# Altium footprint library SparkFun-Connectors.PCBLIB: 305 footprints (part 13 of 20)
Each footprint in its own frame and in the unit in brackets; x right, y up, seen from the top. Pads: shape width x height; smd on the part's side, far side on the other; paste and mask are expansions set on the pad; w line width, h text height; cw(c..) or ccw(c..) is an arc to the next point about the centre after c.
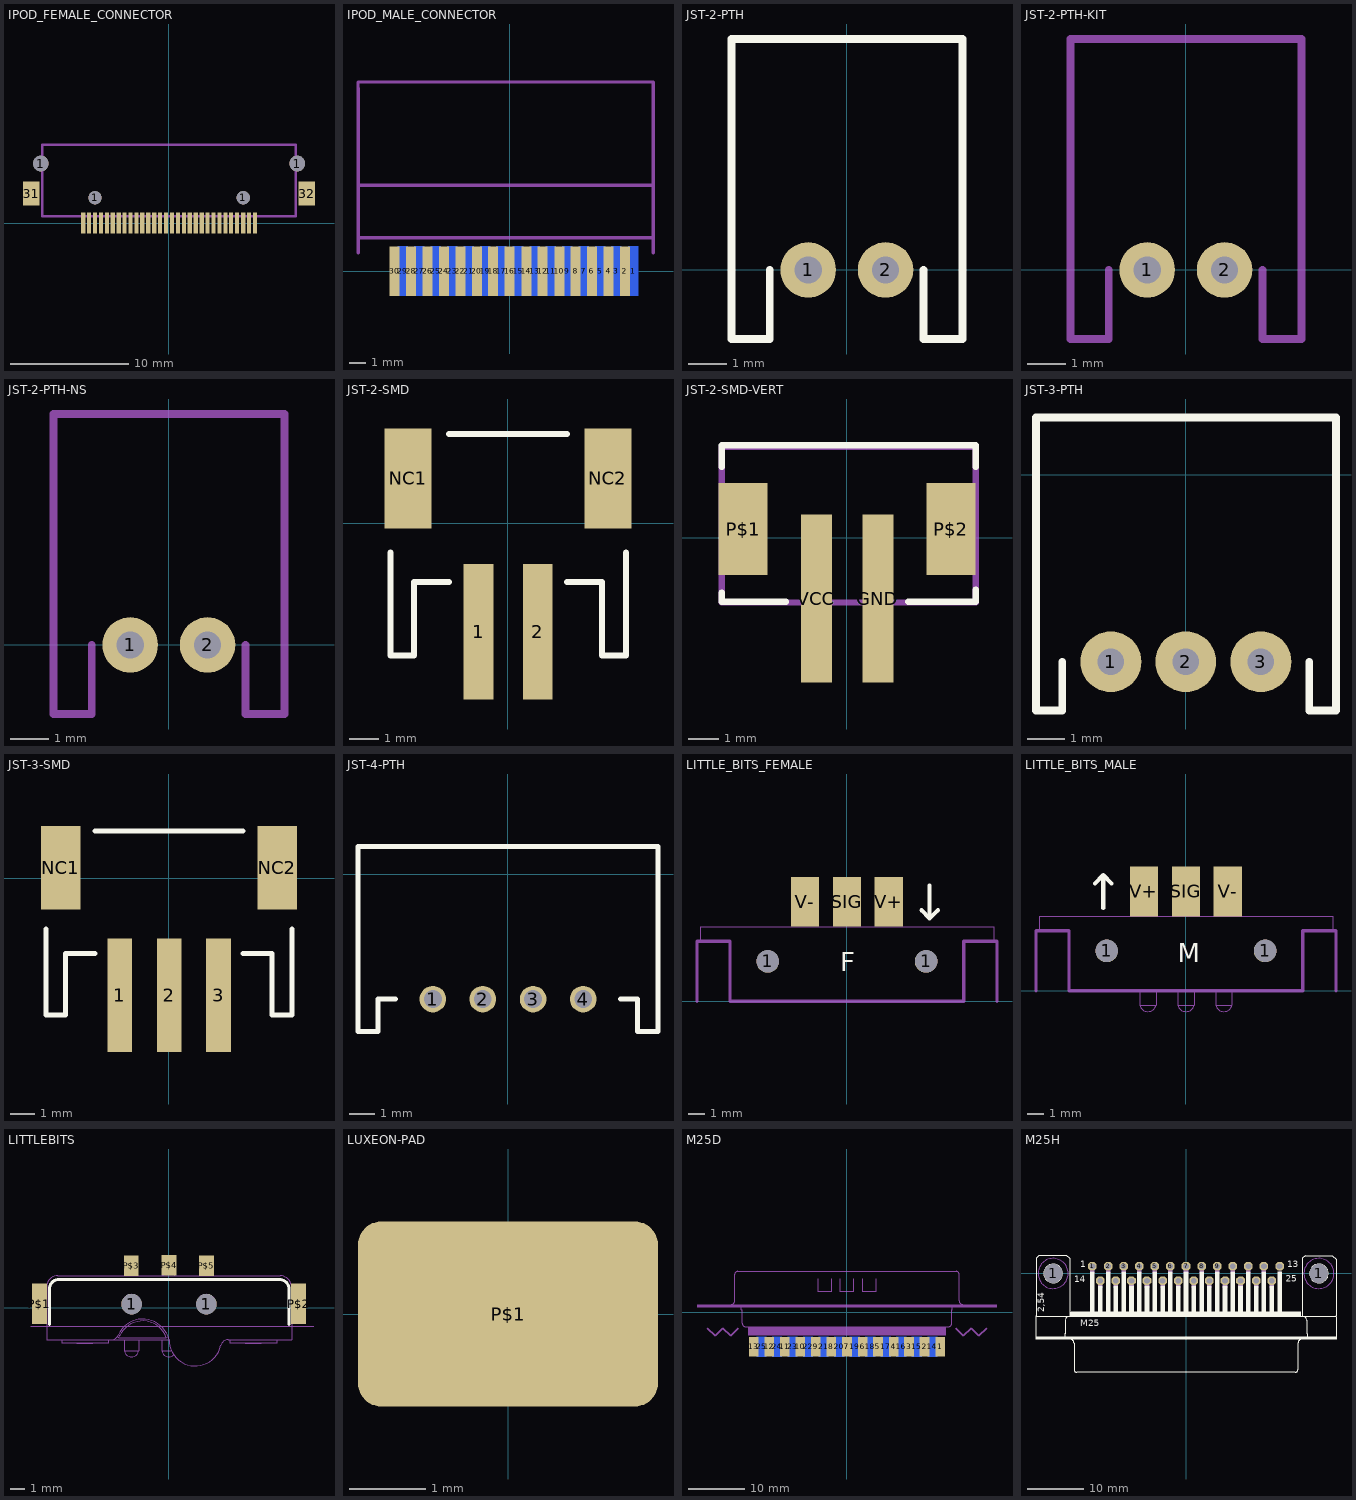
[diagram p12: the footprints below, top view; thin cyan lines are the x and y axes]

## IPOD_FEMALE_CONNECTOR [mil]
pads (36):
  round 52 hole 52: 1(-426.18,198) 1(427,198)
  rect 14x69 smd: 1(-285.43,0) 2(-265.75,0) 3(-246.06,0) 4(-226.38,0) 5(-206.69,0) 6(-187.01,0) 7(-167.32,0) 8(-147.64,0) 9(-127.95,0) 10(-108.27,0) 11(-88.58,0) 12(-68.9,0) 13(-49.21,0) 14(-29.53,0) 15(-9.84,0) 16(10,0) 17(30,0) 18(50,0) 19(69,0) 20(89,0) 21(109,0) 22(128,0) 23(148,0) 24(168,0) 25(188,0) 26(207,0) 27(227,0) 28(247,0) 29(266,0) 30(286,0)
  round 44 hole 44: 1(-246.06,84) 1(247,84)
  rect 56x81 smd: 31(-458.66,98) 32(459,98)
Mechanical 16:
  lines w8: -421.26,23 422,23 422,261 -421.26,261 -421.26,23

## IPOD_MALE_CONNECTOR [mil]
pads (30):
  rect 24x119 smd far side: 1(296,0) 3(256,0) 5(217,0) 7(178,0) 9(138,0) 11(99,0) 13(60,0) 15(20,0) 17(-19.68,0) 19(-59.06,0) 21(-98.43,0) 23(-137.8,0) 25(-177.17,0) 27(-216.54,0) 29(-255.91,0)
  rect 24x119 smd: 2(276,0) 4(237,0) 6(197,0) 8(158,0) 10(119,0) 12(79,0) 14(40,0) 16(0,0) 18(-39.37,0) 20(-78.74,0) 22(-118.11,0) 24(-157.48,0) 26(-196.85,0) 28(-236.22,0) 30(-275.59,0)
Mechanical 16:
  lines w8: -363.46,206 344,206 344,193 ; -363.34,80 344,80 344,76 ; -363.34,437 -363.34,453 344,453 344,193 ; -363.19,44 -363.19,438 ; 344,44 344,162 ; 344,161 344,193

## JST-2-PTH [mil]
pads (2):
  round 57 hole 28: 1(-39.37,0) 2(40,0)
Top Overlay:
  lines w8: -78.74,0 -78.74,-70.87 -118.11,-70.87 -118.11,237 119,237 119,-70.87 79,-70.87 79,0
Mechanical 16:
  text "+" at 24,28 h77.5
  text "-" at -55.12,28 h77.5

## JST-2-PTH-KIT [mil]
pads (2):
  round 57 hole 28: 1(-39.37,0) 2(40,0)
Top Solder:
  region: 0,0 10,0 10,10 0,10
  region: 0,0 10,0 10,10 0,10
Bottom Solder:
  region: 0,0 10,0 10,10 0,10
  region: 0,0 10,0 10,10 0,10
Mechanical 16:
  lines w8: -78.74,0 -78.74,-70.87 -118.11,-70.87 -118.11,237 119,237 119,-70.87 79,-70.87 79,0
  text "+" at 24,28 h77.5
  text "-" at -55.12,28 h77.5

## JST-2-PTH-NS [mil]
pads (2):
  round 57 hole 28: 1(-39.37,0) 2(40,0)
Mechanical 16:
  lines w8: -78.74,0 -78.74,-70.87 -118.11,-70.87 -118.11,237 119,237 119,-70.87 79,-70.87 79,0
  text "+" at 24,28 h77.5
  text "-" at -55.12,28 h77.5

## JST-2-SMD [mil]
pads (4):
  rect 40x182 smd: 1(-39.37,-145.67) 2(40,-145.67)
  rect 63x134 smd: NC1(-133.86,60) NC2(134,60)
Top Overlay:
  lines w8: -157.48,-39.37 -157.48,-177.17 -125.98,-177.17 -125.98,-78.74 -78.74,-78.74 ; -78.74,119 79,119 ; 79,-78.74 126,-78.74 126,-177.17 158,-177.17 158,-39.37
Mechanical 16:
  text "+" at 85,-175 h77.5
  text "-" at -115,-175 h77.5

## JST-2-SMD-VERT [mil]
pads (4):
  rect 40x217 smd: GND(40,-78.74) VCC(-39.37,-78.74)
  rect 63x119 smd: P$1(-133.86,11) P$2(134,11)
Top Overlay:
  lines w8: -161.42,-70.87 -161.42,-82.68 -78.74,-82.68 ; -161.42,91 -161.42,119 166,119 166,91 ; 79,-82.68 166,-82.68 166,-66.93
Mechanical 16:
  lines w8: -161.42,-83.86 166,-83.86 166,117 -161.42,117 -161.42,-83.86

## JST-3-PTH [mil]
pads (3):
  round 64 hole 28: 1(-78.74,-196.85) 2(0,-196.85) 3(79,-196.85)
Top Overlay:
  lines w8: -129.92,-196.85 -129.92,-248.03 -157.48,-248.03 -157.48,60 158,60 158,-248.03 130,-248.03 130,-196.85
Mechanical 16:
  text "+" at -94.49,-170.47 h77.5
  text "-" at -15.75,-170.47 h77.5
  text "S" at 67,-162.6 h49.6

## JST-3-SMD [mil]
pads (5):
  rect 40x182 smd: 1(-78.35,-187.8) 2(1,-187.8) 3(80,-187.8)
  rect 63x134 smd: NC1(-172.83,17) NC2(174,17)
Top Overlay:
  lines w8: -196.46,-81.5 -196.46,-219.29 -164.96,-219.29 -164.96,-120.87 -117.72,-120.87 ; -117.72,76 119,76 ; 119,-120.87 166,-120.87 166,-219.29 198,-219.29 198,-81.5

## JST-4-PTH [mil]
pads (4):
  round 42 hole 28: 1(-118.11,-196.85) 2(-39.37,-196.85) 3(40,-196.85) 4(119,-196.85)
Top Overlay:
  lines w8: -177.17,-196.85 -204.72,-196.85 -204.72,-248.03 -236.22,-248.03 -236.22,44 237,44 237,-248.03 205,-248.03 205,-196.85 178,-196.85
Mechanical 16:
  text "+" at -133.86,-169.29 h77.5
  text "-" at -55.12,-169.29 h77.5
  text "S" at 28,-161.42 h49.6
  text "S" at 107,-161.42 h49.6

## LITTLE_BITS_FEMALE [mil]
pads (5):
  round 54 hole 54: 1(-188.58,95) 1(189,95)
  rect 67x119 smd: SIG(0,237) V+(100,237) V-(-100,237)
Top Overlay:
  lines w10: 178,217 197,197 ; 197,276 197,197 ; 217,217 197,197
  text "F" at -15.75,56 h77.5
Mechanical 1:
  lines w8: -357.28,0 -357.28,143 -278.54,143 -278.54,0 279,0 279,143 358,143 358,0
Mechanical 16:
  lines w1: -349.41,143 -349.41,178 350,178 350,143

## LITTLE_BITS_MALE [mil]
pads (5):
  round 54 hole 54: 1(-188.58,95) 1(189,95)
  rect 67x119 smd: SIG(0,237) V+(-100,237) V-(100,237)
Top Overlay:
  lines w10: -216.54,256 -196.85,276 ; -196.85,197 -196.85,276 ; -177.17,256 -196.85,276
  text "M" at -19,52 h77.5
Mechanical 1:
  lines w8: -357.28,0 -357.28,143 -278.54,143 -278.54,0 279,0 279,143 358,143 358,0
Mechanical 16:
  lines w0: -110.11,-4.09 -110.11,-34.09 ; -71.11,-4.09 -71.11,-34.09 ; -19.11,-4.09 -19.11,-34.09 ; 20,-4.09 20,-34.09 ; 71,-4.09 71,-34.09 ; 110,-4.09 110,-34.09 ; -110.11,-34.09 -71.11,-34.09 ; -110.11,-34.09 ccw(c-90.61,-29.64) -71.11,-34.09 ; -19.11,-34.09 20,-34.09 ; -19.11,-34.09 ccw(c0.44,-29.63) 20,-34.09 ; 71,-34.09 110,-34.09 ; 71,-34.09 ccw(c90.5,-29.64) 110,-34.09
  lines w1: -349.41,143 -349.41,178 350,178 350,143

## LITTLEBITS [mil]
pads (7):
  round 55 hole 55: 1(-99,9) 1(101,9)
  rect 40x109 smd: P$1(-346,10) P$2(348,10)
  rect 40x55 smd: P$3(-100,112) P$4(1,113) P$5(101,112)
Top Overlay:
  lines w8: -319,-45.5 -319,50 cw(c-294,50) -294,75 297,75 cw(c297,50) 322,50 322,-45.5
Mechanical 16:
  circle w1: c-99.19,10 r25
  circle w1: c-99.19,10 r15
  circle w1: c101,10 r25
  circle w1: c101,10 r15
  lines w0: -369,-49.5 389,-49.5 ; -326.69,60 -326.69,-40.97 ; -286.69,-85.97 -286.69,-95.97 -161.69,-95.97 -161.69,-85.97 ; -245.85,-95.97 -245.85,-96.97 -204.19,-96.97 -204.19,-95.97 ; -236.48,-96.97 -236.48,-95.97 ; -210.43,-96.97 -210.43,-95.97 ; -137.44,-77.97 -133.44,-80.97 ; -118.69,-85.97 -118.69,-115.97 ; -114.19,85 -114.19,135 -84.19,135 -84.19,85 ; -79.69,-85.97 -79.69,-115.97 ; -14.19,85 -14.19,135 16,135 16,85 ; -1.41,-79.42 -5.87,-80.97 ; 8,-115.97 -18.68,-115.97 ; 14,-126.62 cw(c0.85,-111.5) -18.68,-115.97 ; 86,85 86,135 116,135 116,85 ; 329,-40.97 364,-40.97 364,-3.47 cw(c364,9.27) 364,22 364,60 329,60 ; -326.69,-40.97 -326.69,-85.97 -153.44,-85.97 ; -326.69,-40.97 -361.69,-40.97 -361.69,-3.47 ccw(c-361.69,9.27) -361.69,22 -361.69,60 -326.26,60 cw(c-296.68,55) -296.69,85 116,85 ; -153.44,-85.97 -18.68,-85.97 ; -153.44,-85.97 ccw(c-153.44,-65.97) -135.13,-74.02 ; -135.13,-74.02 -130.56,-76.03 ; -135.13,-74.02 -135.14,-74.02 ; -135.14,-74.02 cw(c-69.09,-103.05) 1,-85.97 ; -133.44,-80.97 -5.87,-80.97 ; -133.44,-80.97 ccw(c-153.44,-65.97) -130.56,-76.03 ; -130.56,-76.03 cw(c-69.18,-103.02) -5.87,-80.97 ; -118.69,-115.97 -79.69,-115.97 ; -118.69,-115.97 ccw(c-99.19,-111.52) -79.68,-115.97 ; -18.68,-115.97 -18.68,-85.97 ; -18.68,-85.97 1,-85.97 ; 1,-85.97 1,-85.97 ; 1,-85.97 ccw(c71.38,-85.93) 140,-101.52 cw(c159.25,-105.66) 159,-85.97 164,-85.97 ; 116,85 299,85 cw(c298.71,55.34) 328,60 329,60 ; 164,-85.97 289,-85.97 ; 164,-85.97 164,-95.97 205,-95.97 ; 205,-95.97 214,-95.97 ; 205,-95.97 205,-96.97 214,-96.97 ; 214,-96.97 240,-96.97 ; 214,-96.97 214,-95.97 ; 214,-95.97 240,-95.97 ; 240,-96.97 246,-96.97 246,-95.97 ; 240,-96.97 240,-95.97 ; 240,-95.97 246,-95.97 ; 246,-95.97 289,-95.97 289,-85.97 ; 289,-85.97 329,-85.97 329,60

## LUXEON-PAD [mil]
pads (1):
  rrect25% 154x95 smd: P$1(0,0)

## M25D [mil]
pads (25):
  rect 67x138 smd: 1(649,-237.98) 2(540,-237.99) 3(432,-237.98) 4(325,-237.98) 5(216,-237.98) 6(109,-237.98) 7(0,-237.99) 8(-108.01,-237.98) 9(-215.99,-237.98) 10(-324.01,-237.98) 11(-431.99,-237.98) 12(-540,-237.99) 13(-648.01,-237.98)
  rect 67x138 smd far side: 14(594,-238) 15(486,-238) 16(378,-238) 17(270,-238) 18(162,-238) 19(54,-238) 20(-54,-238) 21(-162,-238) 22(-270,-238) 23(-378,-238) 24(-486,-238) 25(-594,-238)
Mechanical 16:
  rectangle: -1043.31,36 1044,56
  rectangle: -688.98,-161.42 689,-98.43
  lines w6: -805,56 ccw(c-805,81) -780,81 -780,266 cw(c-760,266) -760,286 760,286 cw(c760,266) 780,266 780,81 ccw(c805,81) 805,56 ; -734,40 -734,20 -729,20 -729,-75 ccw(c-704,-75) -704,-100 ; -704.76,-100 704,-100 ; -200,235 -200,145 -110,145 -110,235 ; -45,235 -45,145 45,145 45,235 ; 110,235 110,145 200,145 200,235 ; 705,-100 704,-100 ; 734,40 734,20 729,20 729,-75 cw(c704,-75) 704,-100
  text "1" at 631,-85.77 h77.5
  text "13" at -663.8,-85.77 h77.5
  text "M25D" at -678,181 h77.5
Mechanical 30:
  lines w10: -972,-108 -918,-162 -864,-108 -810,-162 -756,-108 ; 756,-108 810,-162 864,-108 918,-162 972,-108
  text "Board" at 774,-100 h77.5
  text "25" at -577.19,-32.48 h77.5
  text "14" at 616,-32.48 h77.5
  text "Board" at -974,-100 h77.5

## M25H [mil]
pads (27):
  round 130 hole 130: 1(-926,0) 1(926,0)
  oct 60x60 hole 40: 1(-652,50) 2(-543,50) 3(-435,50) 4(-326,50) 5(-217,50) 6(-109,50) 7(0,50) 8(109,50) 9(217,50) 10(326,50) 11(435,50) 12(543,50) 13(652,50) 14(-598,-50) 15(-489,-50) 16(-380,-50) 17(-272,-50) 18(-163,-50) 19(-54,-50) 20(54,-50) 21(163,-50) 22(272,-50) 23(380,-50) 24(489,-50) 25(598,-50)
Top Overlay:
  circle w6: c926,0 r65
  circle w6: c-926,0 r65
  rectangle: -1045,-460 1045,-440
  rectangle: -800,-300 800,-270
  rectangle: -668,-270 -636,15
  rectangle: -614,-270 -582,-85
  rectangle: -559,-270 -527,15
  rectangle: -505,-270 -473,-85
  rectangle: -451,-270 -419,15
  rectangle: -396,-270 -364,-85
  rectangle: -342,-270 -310,15
  rectangle: -288,-270 -256,-85
  rectangle: -233,-270 -201,15
  rectangle: -179,-270 -147,-85
  rectangle: -125,-270 -93,15
  rectangle: -70,-270 -38,-85
  rectangle: -16,-270 16,15
  rectangle: 38,-270 70,-85
  rectangle: 93,-270 125,15
  rectangle: 147,-270 179,-85
  rectangle: 201,-270 233,15
  rectangle: 256,-270 288,-85
  rectangle: 310,-270 342,15
  rectangle: 364,-270 396,-85
  rectangle: 419,-270 451,15
  rectangle: 473,-270 505,-85
  rectangle: 527,-270 559,15
  rectangle: 582,-270 614,-85
  rectangle: 636,-270 668,15
  lines w6: -845,-440 -845,-420 -840,-420 -840,-325 cw(c-815,-325) -815,-300 ; -805,-460 cw(c-805,-485) -780,-485 -780,-670 ccw(c-760,-670) -760,-690 -750,-690 750,-690 760,-690 ccw(c760,-670) 780,-670 780,-485 cw(c805,-485) 805,-460 ; 815,-300 cw(c815,-325) 840,-325 840,-420 845,-420 845,-440 ; -1045,-300 -1045,-420 -1045,-440 -1045,-460 -765,-460 765,-460 1045,-460 1045,-440 1045,-420 1045,-300 ; -1045,-300 -1045,-295 -1045,105 -1025,125 -830,125 -810,105 -810,-300 ; -1045,-300 -845,-300 -810,-300 ; -810,-300 -800,-300 ; -800,-300 800,-300 ; -800,-300 -800,-270 800,-270 800,-300 ; 800,-300 810,-300 ; 810,-300 845,-300 1045,-300 ; 810,-300 810,105 830,125 1020,125 1045,100 1045,-295 1045,-300
  text "1" at -735,25 h77.5
  text "13" at 705,25 h77.5
  text "14" at -780,-80 h77.5
  text "25" at 695,-75 h77.5
  text "2,54" at -970,-270 h77.5
  text "M25" at -735,-385 h77.5
Mechanical 9:
  circle w0: c926,0 r105
  circle w0: c-926,0 r105
Mechanical 10:
  circle w0: c926,0 r105
  circle w0: c-926,0 r105
Mechanical 16:
  lines w6: 652,5 652,45
  lines w32: -652,5 -652,45 ; -598,-94 -598,-54 ; -543,5 -543,45 ; -489,-94 -489,-54 ; -435,5 -435,45 ; -380,-94 -380,-54 ; -326,5 -326,45 ; -272,-95 -272,-55 ; -217,5 -217,45 ; -163,-95 -163,-55 ; -109,5 -109,45 ; -54,-95 -54,-55 ; 0,5 0,45 ; 54,-95 54,-55 ; 109,5 109,45 ; 163,-95 163,-55 ; 217,5 217,45 ; 272,-95 272,-55 ; 326,5 326,45 ; 380,-95 380,-55 ; 435,5 435,45 ; 489,-95 489,-55 ; 543,5 543,45 ; 598,-95 598,-55